# Altium schematic symbol library M_CHG_PCB.Schlib: 1 symbol
Pins are listed as number, name and electrical type; pins without a type are passive.

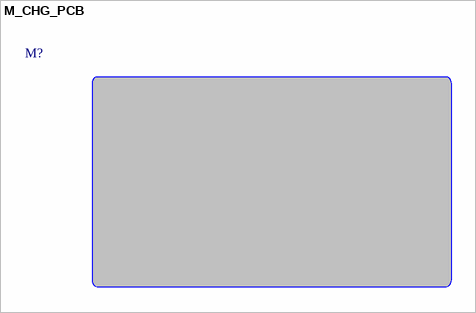
[diagram p0: symbol M_CHG_PCB]

## M_CHG_PCB
designator M?  (mechanical)